# EAGLE library part STM32F303RE (library spectrometer)
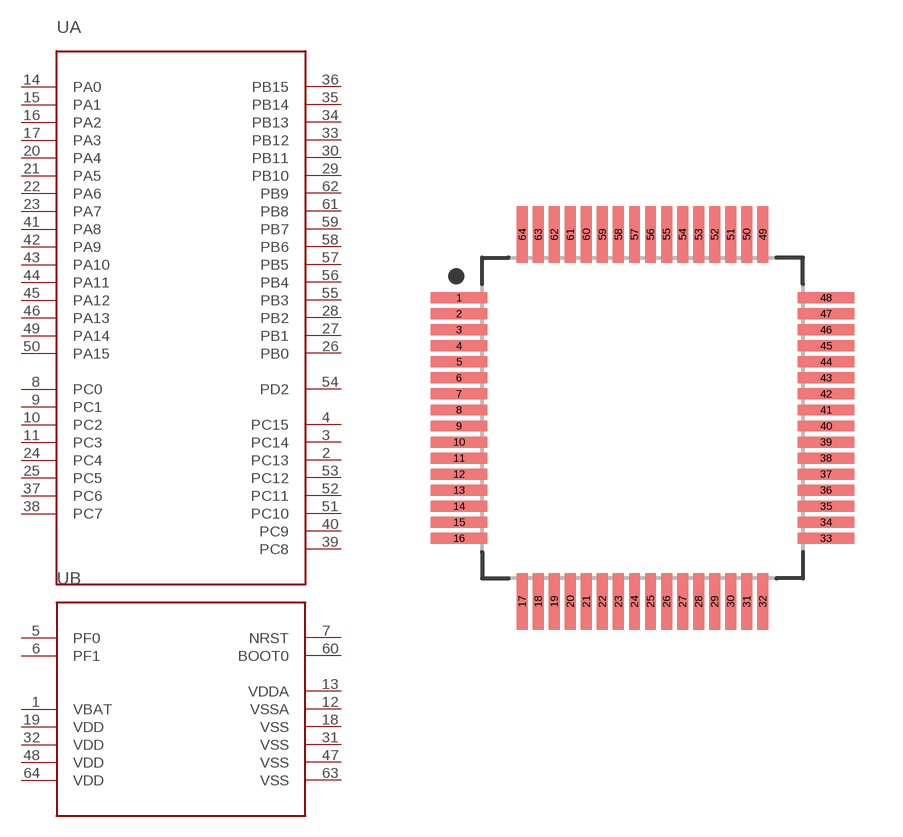
[diagram p5: symbol with the pads of QFP50P1200X1200X160-64M; footprint QFP50P1200X1200X160-64M]

Designator prefix U; gates A=STM32F303RE B=STM32F303RE_POWER

## STM32F303RELQFP64  [QFP50P1200X1200X160-64M]
1  B:VBAT
2  A:PC13
3  A:PC14
4  A:PC15
5  B:PF0
6  B:PF1
7  B:NRST
8  A:PC0
9  A:PC1
10  A:PC2
11  A:PC3
12  B:VSSA
13  B:VDDA
14  A:PA0
15  A:PA1
16  A:PA2
17  A:PA3
18  B:VSS
19  B:VDD
20  A:PA4
21  A:PA5
22  A:PA6
23  A:PA7
24  A:PC4
25  A:PC5
26  A:PB0
27  A:PB1
28  A:PB2
29  A:PB10
30  A:PB11
31  B:VSS
32  B:VDD
33  A:PB12
34  A:PB13
35  A:PB14
36  A:PB15
37  A:PC6
38  A:PC7
39  A:PC8
40  A:PC9
41  A:PA8
42  A:PA9
43  A:PA10
44  A:PA11
45  A:PA12
46  A:PA13
47  B:VSS
48  B:VDD
49  A:PA14
50  A:PA15
51  A:PC10
52  A:PC11
53  A:PC12
54  A:PD2
55  A:PB3
56  A:PB4
57  A:PB5
58  A:PB6
59  A:PB7
60  B:BOOT0
61  A:PB8
62  A:PB9
63  B:VSS
64  B:VDD

## Footprint QFP50P1200X1200X160-64M (pad centres in mm)
64-QFP, 0.50 mm pitch, 12.00 mm span, 10.00 X 10.00 X 1.60 mm body 64-pin QFP package with 0.50 mm pitch, 12.00 mm lead span1 X 12.00 mm lead span2 with body size 10.00 X 10.00 X 1.60 mm
smd 1.769 x 0.34: 1 -5.721,3.75; 2 -5.721,3.25; 3 -5.721,2.75; 4 -5.721,2.25; 5 -5.721,1.75; 6 -5.721,1.25; 7 -5.721,0.75; 8 -5.721,0.25; 9 -5.721,-0.25; 10 -5.721,-0.75; 11 -5.721,-1.25; 12 -5.721,-1.75; 13 -5.721,-2.25; 14 -5.721,-2.75; 15 -5.721,-3.25; 16 -5.721,-3.75; 33 5.721,-3.75; 34 5.721,-3.25; 35 5.721,-2.75; 36 5.721,-2.25; 37 5.721,-1.75; 38 5.721,-1.25; 39 5.721,-0.75; 40 5.721,-0.25; 41 5.721,0.25; 42 5.721,0.75; 43 5.721,1.25; 44 5.721,1.75; 45 5.721,2.25; 46 5.721,2.75; 47 5.721,3.25; 48 5.721,3.75
smd 0.34 x 1.769: 17 -3.75,-5.721; 18 -3.25,-5.721; 19 -2.75,-5.721; 20 -2.25,-5.721; 21 -1.75,-5.721; 22 -1.25,-5.721; 23 -0.75,-5.721; 24 -0.25,-5.721; 25 0.25,-5.721; 26 0.75,-5.721; 27 1.25,-5.721; 28 1.75,-5.721; 29 2.25,-5.721; 30 2.75,-5.721; 31 3.25,-5.721; 32 3.75,-5.721; 49 3.75,5.721; 50 3.25,5.721; 51 2.75,5.721; 52 2.25,5.721; 53 1.75,5.721; 54 1.25,5.721; 55 0.75,5.721; 56 0.25,5.721; 57 -0.25,5.721; 58 -0.75,5.721; 59 -1.25,5.721; 60 -1.75,5.721; 61 -2.25,5.721; 62 -2.75,5.721; 63 -3.25,5.721; 64 -3.75,5.721